# EAGLE library part HY2112 (library hycon)
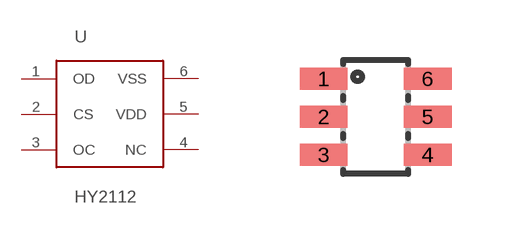
[diagram p0: symbol with the pads of SOT23-6L; footprint SOT23-6L]

Designator prefix U

## HY2112  [SOT23-6L]
1  OD
2  CS
3  OC
4  NC
5  VDD  pwr
6  VSS  pwr

## Footprint SOT23-6L (pad centres in mm)
Small Outline Transistor
smd 1.2 x 0.55: 1 -1.3,0.95; 2 -1.3,0; 3 -1.3,-0.95; 4 1.3,-0.95; 5 1.3,0; 6 1.3,0.95